# Altium schematic symbol library CP2102N-A02-GQFN28R.SchLib: 1 symbol
Pins are listed as number, name and electrical type; pins without a type are passive.

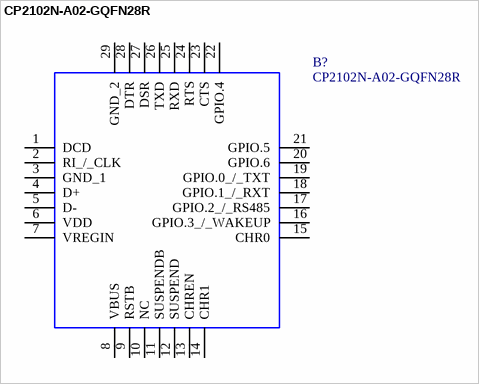
[diagram p0: symbol CP2102N-A02-GQFN28R]

## CP2102N-A02-GQFN28R
designator B?
USB Interface IC USB to UART bridge - QFN28; Manufacturer_Name: Silicon Labs; Geometry.Height: 0.8mm; Manufacturer_Part_Number: CP2102N-A02-GQFN28R; Mouser Part Number: 634-CP2102NA02QFN28R; Mouser Price/Stock: https://www.mouser.co.uk/ProductDetail/Silicon-Labs/CP2102N-A02-GQFN28R?qs=u16ybLDytRag4qKvSH3fTw%3D%3D; Arrow Part Number: CP2102N-A02-GQFN28R; Arrow Price/Stock: https://www.arrow.com/en/products/cp2102n-a02-gqfn28r/silicon-labs?region=nac; Mouser Testing Part Number: *; Mouser Testing Price/Stock: *; Datasheet Link: https://www.silabs.com/documents/public/data-sheets/cp2102n-datasheet.pdf
footprint QFN50P500X500X80-29N-D
pins: 1 DCD, 2 RI_/_CLK, 3 GND_1, 4 D+, 5 D-, 6 VDD, 7 VREGIN, 8 VBUS, 9 RSTB, 10 NC, 11 SUSPENDB, 12 SUSPEND, 13 CHREN, 14 CHR1, 15 CHR0, 16 GPIO.3_/_WAKEUP, 17 GPIO.2_/_RS485, 18 GPIO.1_/_RXT, 19 GPIO.0_/_TXT, 20 GPIO.6, 21 GPIO.5, 22 GPIO.4, 23 CTS, 24 RTS, 25 RXD, 26 TXD, 27 DSR, 28 DTR, 29 GND_2